# EAGLE library part MAX7414 (library alexwhittemore-eagle)
MAX7414 Maxim 5th order Butterworth response Low-pass filter -3v
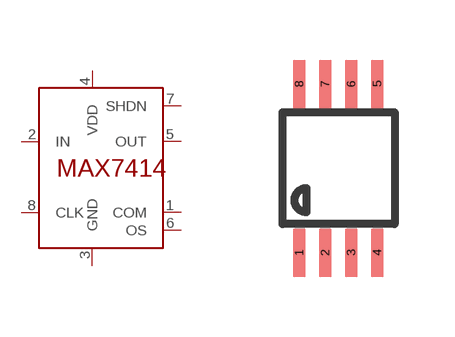
[diagram p3: symbol with the pads of MSOP08; footprint MSOP08]

Designator prefix IC

## MAX7414  [MSOP08]
1  COM
2  IN  in
3  GND  pwr
4  VDD  pwr
5  OUT  out
6  OS
7  SHDN  in
8  CLK  in

## Footprint MSOP08 (pad centres in mm)
Mini Small Outline Package Grid 0.5mm
smd 0.3 x 1.2: 1 -0.976,-2.113; 2 -0.326,-2.113; 3 0.324,-2.113; 4 0.974,-2.113; 5 0.974,2.112; 6 0.324,2.112; 7 -0.326,2.112; 8 -0.976,2.112